# Altium footprint library LTM8045IYPBF.PcbLib: 1 footprints
Each footprint in its own frame and in the unit in brackets; x right, y up, seen from the top. Pads: shape width x height; smd on the part's side, far side on the other; paste and mask are expansions set on the pad; w line width, h text height; cw(c..) or ccw(c..) is an arc to the next point about the centre after c.
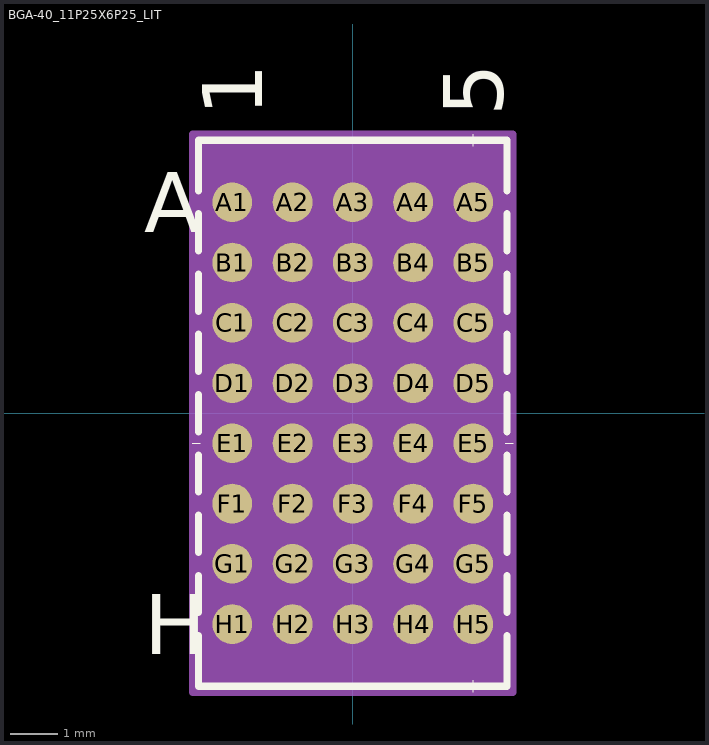
[diagram p0: the footprint, top view; thin cyan lines are the x and y axes]

## BGA-40_11P25X6P25_LIT [mil]
pads (40):
  round 33 smd paste+0 mask+0: A1(-100,175) A2(-50,175) A3(0,175) A4(50,175) A5(100,175) B1(-100,125) B2(-50,125) B3(0,125) B4(50,125) B5(100,125) C1(-100,75) C2(-50,75) C3(0,75) C4(50,75) C5(100,75) D1(-100,25) D2(-50,25) D3(0,25) D4(50,25) D5(100,25) E1(-100,-25) E2(-50,-25) E3(0,-25) E4(50,-25) E5(100,-25) F1(-100,-75) F2(-50,-75) F3(0,-75) F4(50,-75) F5(100,-75) G1(-100,-125) G2(-50,-125) G3(0,-125) G4(50,-125) G5(100,-125) H1(-100,-175) H2(-50,-175) H3(0,-175) H4(50,-175) H5(100,-175)
Top Overlay:
  lines w1: -133,-25 -126.6,-25 ; 100,-231.5 100,-221.5 ; 100,221.5 100,231.5 ; 126.6,-25 133,-25
  lines w6: -128,-184.6 -128,-226.5 128,-226.5 128,-184.6 ; -128,-165.4 -128,-134.6 ; -128,-115.4 -128,-84.6 ; -128,-65.4 -128,-34.6 ; -128,-15.4 -128,15.4 ; -128,34.6 -128,65.4 ; -128,84.6 -128,115.4 ; -128,134.6 -128,165.4 ; -128,184.6 -128,226.5 128,226.5 128,184.6 ; 128,-165.4 128,-134.6 ; 128,-115.4 128,-84.6 ; 128,-65.4 128,-34.6 ; 128,-15.4 128,15.4 ; 128,34.6 128,65.4 ; 128,84.6 128,115.4 ; 128,134.6 128,165.4
  text "5" at 125,246.5 h50
  text "1" at -75,246.5 h50
  text "H" at -173,-200 h50
  text "A" at -173,150 h50
Mechanical 13:
  lines w1: -123,196.5 -98,221.5 ; -123,-221.5 -123,221.5 123,221.5 123,-221.5 -123,-221.5
  text "5" at 125,246.5 h50
  text "1" at -75,246.5 h50
  text "H" at -173,-200 h50
  text "A" at -173,150 h50
Mechanical 15:
  region: 133,-231.5 -133,-231.5 -133,231.5 133,231.5
  lines w6: -133,-231.5 133,-231.5 133,231.5 -133,231.5 -133,-231.5
3D body "BGA-40_11P25X6P25_LIT.step": height 202.09, standoff 0, extent -122.99,-221.5 122.99,221.5